# Altium footprint library IPC-SM-782 Section 14.1.3 PBGA 1.0mm.PcbLib: 50 footprints (part 6 of 14)
Each footprint in its own frame and in the unit in brackets; x right, y up, seen from the top. Pads: shape width x height; smd on the part's side, far side on the other; paste and mask are expansions set on the pad; w line width, h text height; cw(c..) or ccw(c..) is an arc to the next point about the centre after c.
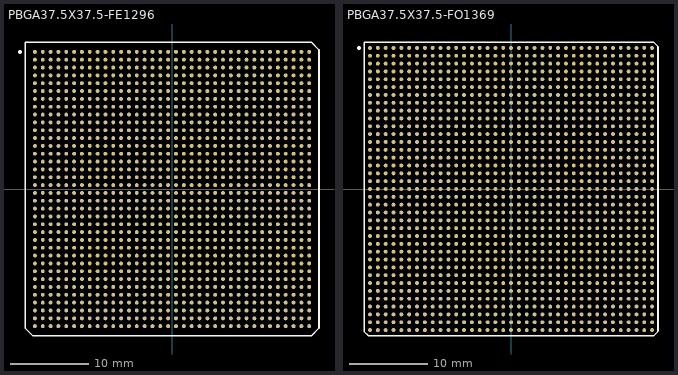
[diagram p5: the footprints below, top view; thin cyan lines are the x and y axes]

## PBGA37.5X37.5-FE1296 [mm] "BGA; 1296 Balls; Body 37.5 x 37.5 mm; Pitch 1 mm"
height 3.5
pads (1296):
  round 0.5 smd: A1(-17.5,17.5) A2(-16.5,17.5) A3(-15.5,17.5) A4(-14.5,17.5) A5(-13.5,17.5) A6(-12.5,17.5) A7(-11.5,17.5) A8(-10.5,17.5) A9(-9.5,17.5) A10(-8.5,17.5) A11(-7.5,17.5) A12(-6.5,17.5) A13(-5.5,17.5) A14(-4.5,17.5) A15(-3.5,17.5) A16(-2.5,17.5) A17(-1.5,17.5) A18(-0.5,17.5) A19(0.5,17.5) A20(1.5,17.5) A21(2.5,17.5) A22(3.5,17.5) A23(4.5,17.5) A24(5.5,17.5) A25(6.5,17.5) A26(7.5,17.5) A27(8.5,17.5) A28(9.5,17.5) A29(10.5,17.5) A30(11.5,17.5) A31(12.5,17.5) A32(13.5,17.5) A33(14.5,17.5) A34(15.5,17.5) A35(16.5,17.5) A36(17.5,17.5) AA1(-17.5,-2.5) AA2(-16.5,-2.5) AA3(-15.5,-2.5) AA4(-14.5,-2.5) AA5(-13.5,-2.5) AA6(-12.5,-2.5) AA7(-11.5,-2.5) AA8(-10.5,-2.5) AA9(-9.5,-2.5) AA10(-8.5,-2.5) AA11(-7.5,-2.5) AA12(-6.5,-2.5) AA13(-5.5,-2.5) AA14(-4.5,-2.5) AA15(-3.5,-2.5) AA16(-2.5,-2.5) AA17(-1.5,-2.5) AA18(-0.5,-2.5) AA19(0.5,-2.5) AA20(1.5,-2.5) AA21(2.5,-2.5) AA22(3.5,-2.5) AA23(4.5,-2.5) AA24(5.5,-2.5) AA25(6.5,-2.5) AA26(7.5,-2.5) AA27(8.5,-2.5) AA28(9.5,-2.5) AA29(10.5,-2.5) AA30(11.5,-2.5) AA31(12.5,-2.5) AA32(13.5,-2.5) AA33(14.5,-2.5) AA34(15.5,-2.5) AA35(16.5,-2.5) AA36(17.5,-2.5) AB1(-17.5,-3.5) AB2(-16.5,-3.5) AB3(-15.5,-3.5) AB4(-14.5,-3.5) AB5(-13.5,-3.5) AB6(-12.5,-3.5) AB7(-11.5,-3.5) AB8(-10.5,-3.5) AB9(-9.5,-3.5) AB10(-8.5,-3.5) AB11(-7.5,-3.5) AB12(-6.5,-3.5) AB13(-5.5,-3.5) AB14(-4.5,-3.5) AB15(-3.5,-3.5) AB16(-2.5,-3.5) AB17(-1.5,-3.5) AB18(-0.5,-3.5) AB19(0.5,-3.5) AB20(1.5,-3.5) AB21(2.5,-3.5) AB22(3.5,-3.5) AB23(4.5,-3.5) AB24(5.5,-3.5) AB25(6.5,-3.5) AB26(7.5,-3.5) AB27(8.5,-3.5) AB28(9.5,-3.5) AB29(10.5,-3.5) AB30(11.5,-3.5) AB31(12.5,-3.5) AB32(13.5,-3.5) AB33(14.5,-3.5) AB34(15.5,-3.5) AB35(16.5,-3.5) AB36(17.5,-3.5) AC1(-17.5,-4.5) AC2(-16.5,-4.5) AC3(-15.5,-4.5) AC4(-14.5,-4.5) AC5(-13.5,-4.5) AC6(-12.5,-4.5) AC7(-11.5,-4.5) AC8(-10.5,-4.5) AC9(-9.5,-4.5) AC10(-8.5,-4.5) AC11(-7.5,-4.5) AC12(-6.5,-4.5) AC13(-5.5,-4.5) AC14(-4.5,-4.5) AC15(-3.5,-4.5) AC16(-2.5,-4.5) AC17(-1.5,-4.5) AC18(-0.5,-4.5) AC19(0.5,-4.5) AC20(1.5,-4.5) AC21(2.5,-4.5) AC22(3.5,-4.5) AC23(4.5,-4.5) AC24(5.5,-4.5) AC25(6.5,-4.5) AC26(7.5,-4.5) AC27(8.5,-4.5) AC28(9.5,-4.5) AC29(10.5,-4.5) AC30(11.5,-4.5) AC31(12.5,-4.5) AC32(13.5,-4.5) AC33(14.5,-4.5) AC34(15.5,-4.5) AC35(16.5,-4.5) AC36(17.5,-4.5) AD1(-17.5,-5.5) AD2(-16.5,-5.5) AD3(-15.5,-5.5) AD4(-14.5,-5.5) AD5(-13.5,-5.5) AD6(-12.5,-5.5) AD7(-11.5,-5.5) AD8(-10.5,-5.5) AD9(-9.5,-5.5) AD10(-8.5,-5.5) AD11(-7.5,-5.5) AD12(-6.5,-5.5) AD13(-5.5,-5.5) AD14(-4.5,-5.5) AD15(-3.5,-5.5) AD16(-2.5,-5.5) AD17(-1.5,-5.5) AD18(-0.5,-5.5) AD19(0.5,-5.5) AD20(1.5,-5.5) AD21(2.5,-5.5) AD22(3.5,-5.5) AD23(4.5,-5.5) AD24(5.5,-5.5) AD25(6.5,-5.5) AD26(7.5,-5.5) AD27(8.5,-5.5) AD28(9.5,-5.5) AD29(10.5,-5.5) AD30(11.5,-5.5) AD31(12.5,-5.5) AD32(13.5,-5.5) AD33(14.5,-5.5) AD34(15.5,-5.5) AD35(16.5,-5.5) AD36(17.5,-5.5) AE1(-17.5,-6.5) AE2(-16.5,-6.5) AE3(-15.5,-6.5) AE4(-14.5,-6.5) AE5(-13.5,-6.5) AE6(-12.5,-6.5) AE7(-11.5,-6.5) AE8(-10.5,-6.5) AE9(-9.5,-6.5) AE10(-8.5,-6.5) AE11(-7.5,-6.5) AE12(-6.5,-6.5) AE13(-5.5,-6.5) AE14(-4.5,-6.5) AE15(-3.5,-6.5) AE16(-2.5,-6.5) AE17(-1.5,-6.5) AE18(-0.5,-6.5) AE19(0.5,-6.5) AE20(1.5,-6.5) AE21(2.5,-6.5) AE22(3.5,-6.5) AE23(4.5,-6.5) AE24(5.5,-6.5) AE25(6.5,-6.5) AE26(7.5,-6.5) AE27(8.5,-6.5) AE28(9.5,-6.5) AE29(10.5,-6.5) AE30(11.5,-6.5) AE31(12.5,-6.5) AE32(13.5,-6.5) AE33(14.5,-6.5) AE34(15.5,-6.5) AE35(16.5,-6.5) AE36(17.5,-6.5) AF1(-17.5,-7.5) AF2(-16.5,-7.5) AF3(-15.5,-7.5) AF4(-14.5,-7.5) AF5(-13.5,-7.5) AF6(-12.5,-7.5) AF7(-11.5,-7.5) AF8(-10.5,-7.5) AF9(-9.5,-7.5) AF10(-8.5,-7.5) AF11(-7.5,-7.5) AF12(-6.5,-7.5) AF13(-5.5,-7.5) AF14(-4.5,-7.5) AF15(-3.5,-7.5) AF16(-2.5,-7.5) AF17(-1.5,-7.5) AF18(-0.5,-7.5) AF19(0.5,-7.5) AF20(1.5,-7.5) AF21(2.5,-7.5) AF22(3.5,-7.5) AF23(4.5,-7.5) AF24(5.5,-7.5) AF25(6.5,-7.5) AF26(7.5,-7.5) AF27(8.5,-7.5) AF28(9.5,-7.5) AF29(10.5,-7.5) AF30(11.5,-7.5) AF31(12.5,-7.5) AF32(13.5,-7.5) AF33(14.5,-7.5) AF34(15.5,-7.5) AF35(16.5,-7.5) AF36(17.5,-7.5) AG1(-17.5,-8.5) AG2(-16.5,-8.5) AG3(-15.5,-8.5) AG4(-14.5,-8.5) AG5(-13.5,-8.5) AG6(-12.5,-8.5) AG7(-11.5,-8.5) AG8(-10.5,-8.5) AG9(-9.5,-8.5) AG10(-8.5,-8.5) AG11(-7.5,-8.5) AG12(-6.5,-8.5) AG13(-5.5,-8.5) AG14(-4.5,-8.5) AG15(-3.5,-8.5) AG16(-2.5,-8.5) AG17(-1.5,-8.5) AG18(-0.5,-8.5) AG19(0.5,-8.5) AG20(1.5,-8.5) AG21(2.5,-8.5) AG22(3.5,-8.5) AG23(4.5,-8.5) AG24(5.5,-8.5) AG25(6.5,-8.5) AG26(7.5,-8.5) AG27(8.5,-8.5) AG28(9.5,-8.5) AG29(10.5,-8.5) AG30(11.5,-8.5) AG31(12.5,-8.5) AG32(13.5,-8.5) AG33(14.5,-8.5) AG34(15.5,-8.5) AG35(16.5,-8.5) AG36(17.5,-8.5) AH1(-17.5,-9.5) AH2(-16.5,-9.5) AH3(-15.5,-9.5) AH4(-14.5,-9.5) AH5(-13.5,-9.5) AH6(-12.5,-9.5) AH7(-11.5,-9.5) AH8(-10.5,-9.5) AH9(-9.5,-9.5) AH10(-8.5,-9.5) AH11(-7.5,-9.5) AH12(-6.5,-9.5) AH13(-5.5,-9.5) AH14(-4.5,-9.5) AH15(-3.5,-9.5) AH16(-2.5,-9.5) AH17(-1.5,-9.5) AH18(-0.5,-9.5) AH19(0.5,-9.5) AH20(1.5,-9.5) AH21(2.5,-9.5) AH22(3.5,-9.5) AH23(4.5,-9.5) AH24(5.5,-9.5) AH25(6.5,-9.5) AH26(7.5,-9.5) AH27(8.5,-9.5) AH28(9.5,-9.5) AH29(10.5,-9.5) AH30(11.5,-9.5) AH31(12.5,-9.5) AH32(13.5,-9.5) AH33(14.5,-9.5) AH34(15.5,-9.5) AH35(16.5,-9.5) AH36(17.5,-9.5) AJ1(-17.5,-10.5) AJ2(-16.5,-10.5) AJ3(-15.5,-10.5) AJ4(-14.5,-10.5) AJ5(-13.5,-10.5) AJ6(-12.5,-10.5) AJ7(-11.5,-10.5) AJ8(-10.5,-10.5) AJ9(-9.5,-10.5) AJ10(-8.5,-10.5) AJ11(-7.5,-10.5) AJ12(-6.5,-10.5) AJ13(-5.5,-10.5) AJ14(-4.5,-10.5) AJ15(-3.5,-10.5) AJ16(-2.5,-10.5) AJ17(-1.5,-10.5) AJ18(-0.5,-10.5) AJ19(0.5,-10.5) AJ20(1.5,-10.5) AJ21(2.5,-10.5) AJ22(3.5,-10.5) AJ23(4.5,-10.5) AJ24(5.5,-10.5) AJ25(6.5,-10.5) AJ26(7.5,-10.5) AJ27(8.5,-10.5) AJ28(9.5,-10.5) AJ29(10.5,-10.5) AJ30(11.5,-10.5) AJ31(12.5,-10.5) AJ32(13.5,-10.5) AJ33(14.5,-10.5) AJ34(15.5,-10.5) AJ35(16.5,-10.5) AJ36(17.5,-10.5) AK1(-17.5,-11.5) AK2(-16.5,-11.5) AK3(-15.5,-11.5) AK4(-14.5,-11.5) AK5(-13.5,-11.5) AK6(-12.5,-11.5) AK7(-11.5,-11.5) AK8(-10.5,-11.5) AK9(-9.5,-11.5) AK10(-8.5,-11.5) AK11(-7.5,-11.5) AK12(-6.5,-11.5) AK13(-5.5,-11.5) AK14(-4.5,-11.5) AK15(-3.5,-11.5) AK16(-2.5,-11.5) AK17(-1.5,-11.5) AK18(-0.5,-11.5) AK19(0.5,-11.5) AK20(1.5,-11.5) AK21(2.5,-11.5) AK22(3.5,-11.5) AK23(4.5,-11.5) AK24(5.5,-11.5) AK25(6.5,-11.5) AK26(7.5,-11.5) AK27(8.5,-11.5) AK28(9.5,-11.5) AK29(10.5,-11.5) AK30(11.5,-11.5) AK31(12.5,-11.5) AK32(13.5,-11.5) AK33(14.5,-11.5) AK34(15.5,-11.5) AK35(16.5,-11.5) AK36(17.5,-11.5) AL1(-17.5,-12.5) AL2(-16.5,-12.5) AL3(-15.5,-12.5) AL4(-14.5,-12.5) AL5(-13.5,-12.5) AL6(-12.5,-12.5) AL7(-11.5,-12.5) AL8(-10.5,-12.5) AL9(-9.5,-12.5) AL10(-8.5,-12.5) AL11(-7.5,-12.5) AL12(-6.5,-12.5) AL13(-5.5,-12.5) AL14(-4.5,-12.5) AL15(-3.5,-12.5) AL16(-2.5,-12.5) AL17(-1.5,-12.5) AL18(-0.5,-12.5) AL19(0.5,-12.5) AL20(1.5,-12.5) AL21(2.5,-12.5) AL22(3.5,-12.5) AL23(4.5,-12.5) AL24(5.5,-12.5) AL25(6.5,-12.5) AL26(7.5,-12.5) AL27(8.5,-12.5) AL28(9.5,-12.5) AL29(10.5,-12.5) AL30(11.5,-12.5) AL31(12.5,-12.5) AL32(13.5,-12.5) AL33(14.5,-12.5) AL34(15.5,-12.5) AL35(16.5,-12.5) AL36(17.5,-12.5) AM1(-17.5,-13.5) AM2(-16.5,-13.5) AM3(-15.5,-13.5) AM4(-14.5,-13.5) AM5(-13.5,-13.5) AM6(-12.5,-13.5) AM7(-11.5,-13.5) AM8(-10.5,-13.5) AM9(-9.5,-13.5) AM10(-8.5,-13.5) AM11(-7.5,-13.5) AM12(-6.5,-13.5) AM13(-5.5,-13.5) AM14(-4.5,-13.5) AM15(-3.5,-13.5) AM16(-2.5,-13.5) AM17(-1.5,-13.5) AM18(-0.5,-13.5) AM19(0.5,-13.5) AM20(1.5,-13.5) AM21(2.5,-13.5) AM22(3.5,-13.5) AM23(4.5,-13.5) AM24(5.5,-13.5) AM25(6.5,-13.5) AM26(7.5,-13.5) AM27(8.5,-13.5) AM28(9.5,-13.5) AM29(10.5,-13.5) AM30(11.5,-13.5) AM31(12.5,-13.5) AM32(13.5,-13.5) AM33(14.5,-13.5) AM34(15.5,-13.5) AM35(16.5,-13.5) AM36(17.5,-13.5) AN1(-17.5,-14.5) AN2(-16.5,-14.5) AN3(-15.5,-14.5) AN4(-14.5,-14.5) AN5(-13.5,-14.5) AN6(-12.5,-14.5) AN7(-11.5,-14.5) AN8(-10.5,-14.5) AN9(-9.5,-14.5) AN10(-8.5,-14.5) AN11(-7.5,-14.5) AN12(-6.5,-14.5) AN13(-5.5,-14.5) AN14(-4.5,-14.5) AN15(-3.5,-14.5) AN16(-2.5,-14.5) AN17(-1.5,-14.5) AN18(-0.5,-14.5) AN19(0.5,-14.5) AN20(1.5,-14.5) AN21(2.5,-14.5) AN22(3.5,-14.5) AN23(4.5,-14.5) AN24(5.5,-14.5) AN25(6.5,-14.5) AN26(7.5,-14.5) AN27(8.5,-14.5) AN28(9.5,-14.5) AN29(10.5,-14.5) AN30(11.5,-14.5) AN31(12.5,-14.5) AN32(13.5,-14.5) AN33(14.5,-14.5) AN34(15.5,-14.5) AN35(16.5,-14.5) AN36(17.5,-14.5) AP1(-17.5,-15.5) AP2(-16.5,-15.5) AP3(-15.5,-15.5) AP4(-14.5,-15.5) AP5(-13.5,-15.5) AP6(-12.5,-15.5) AP7(-11.5,-15.5) AP8(-10.5,-15.5) AP9(-9.5,-15.5) AP10(-8.5,-15.5) AP11(-7.5,-15.5) AP12(-6.5,-15.5) AP13(-5.5,-15.5) AP14(-4.5,-15.5) AP15(-3.5,-15.5) AP16(-2.5,-15.5) AP17(-1.5,-15.5) AP18(-0.5,-15.5) AP19(0.5,-15.5) AP20(1.5,-15.5) AP21(2.5,-15.5) AP22(3.5,-15.5) AP23(4.5,-15.5) AP24(5.5,-15.5) AP25(6.5,-15.5) AP26(7.5,-15.5) AP27(8.5,-15.5) AP28(9.5,-15.5) AP29(10.5,-15.5) AP30(11.5,-15.5) AP31(12.5,-15.5) AP32(13.5,-15.5) AP33(14.5,-15.5) AP34(15.5,-15.5) AP35(16.5,-15.5) AP36(17.5,-15.5) AR1(-17.5,-16.5) AR2(-16.5,-16.5) AR3(-15.5,-16.5) AR4(-14.5,-16.5) AR5(-13.5,-16.5) AR6(-12.5,-16.5) AR7(-11.5,-16.5) AR8(-10.5,-16.5) AR9(-9.5,-16.5) AR10(-8.5,-16.5) AR11(-7.5,-16.5) AR12(-6.5,-16.5) AR13(-5.5,-16.5) AR14(-4.5,-16.5) AR15(-3.5,-16.5) AR16(-2.5,-16.5) AR17(-1.5,-16.5) AR18(-0.5,-16.5) AR19(0.5,-16.5) AR20(1.5,-16.5) AR21(2.5,-16.5) AR22(3.5,-16.5) AR23(4.5,-16.5) AR24(5.5,-16.5) AR25(6.5,-16.5) AR26(7.5,-16.5) AR27(8.5,-16.5) AR28(9.5,-16.5) AR29(10.5,-16.5) AR30(11.5,-16.5) AR31(12.5,-16.5) AR32(13.5,-16.5) AR33(14.5,-16.5) AR34(15.5,-16.5) AR35(16.5,-16.5) AR36(17.5,-16.5) AT1(-17.5,-17.5) AT2(-16.5,-17.5) AT3(-15.5,-17.5) AT4(-14.5,-17.5) AT5(-13.5,-17.5) AT6(-12.5,-17.5) AT7(-11.5,-17.5) AT8(-10.5,-17.5) AT9(-9.5,-17.5) AT10(-8.5,-17.5) AT11(-7.5,-17.5) AT12(-6.5,-17.5) AT13(-5.5,-17.5) AT14(-4.5,-17.5) AT15(-3.5,-17.5) AT16(-2.5,-17.5) AT17(-1.5,-17.5) AT18(-0.5,-17.5) AT19(0.5,-17.5) AT20(1.5,-17.5) AT21(2.5,-17.5) AT22(3.5,-17.5) AT23(4.5,-17.5) AT24(5.5,-17.5) AT25(6.5,-17.5) AT26(7.5,-17.5) AT27(8.5,-17.5) AT28(9.5,-17.5) AT29(10.5,-17.5) AT30(11.5,-17.5) AT31(12.5,-17.5) AT32(13.5,-17.5) AT33(14.5,-17.5) AT34(15.5,-17.5) AT35(16.5,-17.5) AT36(17.5,-17.5) B1(-17.5,16.5) B2(-16.5,16.5) B3(-15.5,16.5) B4(-14.5,16.5) B5(-13.5,16.5) B6(-12.5,16.5) B7(-11.5,16.5) B8(-10.5,16.5) B9(-9.5,16.5) B10(-8.5,16.5) B11(-7.5,16.5) B12(-6.5,16.5) B13(-5.5,16.5) B14(-4.5,16.5) B15(-3.5,16.5) B16(-2.5,16.5) B17(-1.5,16.5) B18(-0.5,16.5) B19(0.5,16.5) B20(1.5,16.5) B21(2.5,16.5) B22(3.5,16.5) B23(4.5,16.5) B24(5.5,16.5) B25(6.5,16.5) B26(7.5,16.5) B27(8.5,16.5) B28(9.5,16.5) B29(10.5,16.5) B30(11.5,16.5) B31(12.5,16.5) B32(13.5,16.5) B33(14.5,16.5) B34(15.5,16.5) B35(16.5,16.5) B36(17.5,16.5) C1(-17.5,15.5) C2(-16.5,15.5) C3(-15.5,15.5) C4(-14.5,15.5) C5(-13.5,15.5) C6(-12.5,15.5) C7(-11.5,15.5) C8(-10.5,15.5) C9(-9.5,15.5) C10(-8.5,15.5) C11(-7.5,15.5) C12(-6.5,15.5) C13(-5.5,15.5) C14(-4.5,15.5) C15(-3.5,15.5) C16(-2.5,15.5) C17(-1.5,15.5) C18(-0.5,15.5) C19(0.5,15.5) C20(1.5,15.5) C21(2.5,15.5) C22(3.5,15.5) C23(4.5,15.5) C24(5.5,15.5) C25(6.5,15.5) C26(7.5,15.5) C27(8.5,15.5) C28(9.5,15.5) C29(10.5,15.5) C30(11.5,15.5) C31(12.5,15.5) C32(13.5,15.5) C33(14.5,15.5) C34(15.5,15.5) C35(16.5,15.5) C36(17.5,15.5) D1(-17.5,14.5) D2(-16.5,14.5) D3(-15.5,14.5) D4(-14.5,14.5) D5(-13.5,14.5) D6(-12.5,14.5) D7(-11.5,14.5) D8(-10.5,14.5) D9(-9.5,14.5) D10(-8.5,14.5) D11(-7.5,14.5) D12(-6.5,14.5) D13(-5.5,14.5) D14(-4.5,14.5) D15(-3.5,14.5) D16(-2.5,14.5) D17(-1.5,14.5) D18(-0.5,14.5) D19(0.5,14.5) D20(1.5,14.5) D21(2.5,14.5) D22(3.5,14.5) D23(4.5,14.5) D24(5.5,14.5) D25(6.5,14.5) D26(7.5,14.5) D27(8.5,14.5) D28(9.5,14.5) D29(10.5,14.5) D30(11.5,14.5) D31(12.5,14.5) D32(13.5,14.5) D33(14.5,14.5) D34(15.5,14.5) D35(16.5,14.5) D36(17.5,14.5) E1(-17.5,13.5) E2(-16.5,13.5) E3(-15.5,13.5) E4(-14.5,13.5) E5(-13.5,13.5) E6(-12.5,13.5) E7(-11.5,13.5) E8(-10.5,13.5) E9(-9.5,13.5) E10(-8.5,13.5) E11(-7.5,13.5) E12(-6.5,13.5) E13(-5.5,13.5) E14(-4.5,13.5) E15(-3.5,13.5) E16(-2.5,13.5) E17(-1.5,13.5) E18(-0.5,13.5) E19(0.5,13.5) E20(1.5,13.5) E21(2.5,13.5) E22(3.5,13.5) E23(4.5,13.5) E24(5.5,13.5) E25(6.5,13.5) E26(7.5,13.5) E27(8.5,13.5) E28(9.5,13.5) E29(10.5,13.5) E30(11.5,13.5) E31(12.5,13.5) E32(13.5,13.5) E33(14.5,13.5) E34(15.5,13.5) E35(16.5,13.5) E36(17.5,13.5) F1(-17.5,12.5) F2(-16.5,12.5) F3(-15.5,12.5) F4(-14.5,12.5) F5(-13.5,12.5) F6(-12.5,12.5) F7(-11.5,12.5) F8(-10.5,12.5) F9(-9.5,12.5) F10(-8.5,12.5) F11(-7.5,12.5) F12(-6.5,12.5) F13(-5.5,12.5) F14(-4.5,12.5) F15(-3.5,12.5) F16(-2.5,12.5) F17(-1.5,12.5) F18(-0.5,12.5) F19(0.5,12.5) F20(1.5,12.5) F21(2.5,12.5) F22(3.5,12.5) F23(4.5,12.5) F24(5.5,12.5) F25(6.5,12.5) F26(7.5,12.5) F27(8.5,12.5) F28(9.5,12.5) F29(10.5,12.5) F30(11.5,12.5) F31(12.5,12.5) F32(13.5,12.5) F33(14.5,12.5) F34(15.5,12.5) F35(16.5,12.5) F36(17.5,12.5) G1(-17.5,11.5) G2(-16.5,11.5) G3(-15.5,11.5) G4(-14.5,11.5) G5(-13.5,11.5) G6(-12.5,11.5) G7(-11.5,11.5) G8(-10.5,11.5) G9(-9.5,11.5) G10(-8.5,11.5) G11(-7.5,11.5) G12(-6.5,11.5) G13(-5.5,11.5) G14(-4.5,11.5) G15(-3.5,11.5) G16(-2.5,11.5) G17(-1.5,11.5) G18(-0.5,11.5) G19(0.5,11.5) G20(1.5,11.5) G21(2.5,11.5) G22(3.5,11.5) G23(4.5,11.5) G24(5.5,11.5) G25(6.5,11.5) G26(7.5,11.5) G27(8.5,11.5) G28(9.5,11.5) G29(10.5,11.5) G30(11.5,11.5) G31(12.5,11.5) G32(13.5,11.5) G33(14.5,11.5) G34(15.5,11.5) G35(16.5,11.5) G36(17.5,11.5) H1(-17.5,10.5) H2(-16.5,10.5) H3(-15.5,10.5) H4(-14.5,10.5) H5(-13.5,10.5) H6(-12.5,10.5) H7(-11.5,10.5) H8(-10.5,10.5) H9(-9.5,10.5) H10(-8.5,10.5) H11(-7.5,10.5) H12(-6.5,10.5) H13(-5.5,10.5) H14(-4.5,10.5) H15(-3.5,10.5) H16(-2.5,10.5) H17(-1.5,10.5) H18(-0.5,10.5) H19(0.5,10.5) H20(1.5,10.5) H21(2.5,10.5) H22(3.5,10.5) H23(4.5,10.5) H24(5.5,10.5) H25(6.5,10.5) H26(7.5,10.5) H27(8.5,10.5) H28(9.5,10.5) H29(10.5,10.5) H30(11.5,10.5) H31(12.5,10.5) H32(13.5,10.5) H33(14.5,10.5) H34(15.5,10.5) H35(16.5,10.5) H36(17.5,10.5) J1(-17.5,9.5) J2(-16.5,9.5) J3(-15.5,9.5) J4(-14.5,9.5) J5(-13.5,9.5) J6(-12.5,9.5) J7(-11.5,9.5) J8(-10.5,9.5) J9(-9.5,9.5) J10(-8.5,9.5) J11(-7.5,9.5) J12(-6.5,9.5) J13(-5.5,9.5) J14(-4.5,9.5) J15(-3.5,9.5) J16(-2.5,9.5) J17(-1.5,9.5) J18(-0.5,9.5) J19(0.5,9.5) J20(1.5,9.5) J21(2.5,9.5) J22(3.5,9.5) J23(4.5,9.5) J24(5.5,9.5) J25(6.5,9.5) J26(7.5,9.5) J27(8.5,9.5) J28(9.5,9.5) J29(10.5,9.5) J30(11.5,9.5) J31(12.5,9.5) J32(13.5,9.5) J33(14.5,9.5) J34(15.5,9.5) J35(16.5,9.5) J36(17.5,9.5) K1(-17.5,8.5) K2(-16.5,8.5) K3(-15.5,8.5) K4(-14.5,8.5) K5(-13.5,8.5) K6(-12.5,8.5) K7(-11.5,8.5) K8(-10.5,8.5) K9(-9.5,8.5) K10(-8.5,8.5) K11(-7.5,8.5) K12(-6.5,8.5) K13(-5.5,8.5) K14(-4.5,8.5) K15(-3.5,8.5) K16(-2.5,8.5) K17(-1.5,8.5) K18(-0.5,8.5) K19(0.5,8.5) K20(1.5,8.5) K21(2.5,8.5) K22(3.5,8.5) K23(4.5,8.5) K24(5.5,8.5) K25(6.5,8.5) K26(7.5,8.5) K27(8.5,8.5) K28(9.5,8.5) K29(10.5,8.5) K30(11.5,8.5) K31(12.5,8.5) K32(13.5,8.5) K33(14.5,8.5) K34(15.5,8.5) K35(16.5,8.5) K36(17.5,8.5) L1(-17.5,7.5) L2(-16.5,7.5) L3(-15.5,7.5) L4(-14.5,7.5) L5(-13.5,7.5) L6(-12.5,7.5) L7(-11.5,7.5) L8(-10.5,7.5) L9(-9.5,7.5) L10(-8.5,7.5) L11(-7.5,7.5) L12(-6.5,7.5) L13(-5.5,7.5) L14(-4.5,7.5) L15(-3.5,7.5) L16(-2.5,7.5) L17(-1.5,7.5) L18(-0.5,7.5) L19(0.5,7.5) L20(1.5,7.5) L21(2.5,7.5) L22(3.5,7.5) L23(4.5,7.5) L24(5.5,7.5) L25(6.5,7.5) L26(7.5,7.5) L27(8.5,7.5) L28(9.5,7.5) L29(10.5,7.5) L30(11.5,7.5) L31(12.5,7.5) L32(13.5,7.5) L33(14.5,7.5) L34(15.5,7.5) L35(16.5,7.5) L36(17.5,7.5) M1(-17.5,6.5) M2(-16.5,6.5) M3(-15.5,6.5) M4(-14.5,6.5) M5(-13.5,6.5) M6(-12.5,6.5) M7(-11.5,6.5) M8(-10.5,6.5) M9(-9.5,6.5) M10(-8.5,6.5) M11(-7.5,6.5) M12(-6.5,6.5) M13(-5.5,6.5) M14(-4.5,6.5) M15(-3.5,6.5) M16(-2.5,6.5) M17(-1.5,6.5) M18(-0.5,6.5) M19(0.5,6.5) M20(1.5,6.5) M21(2.5,6.5) M22(3.5,6.5) M23(4.5,6.5) M24(5.5,6.5) M25(6.5,6.5) M26(7.5,6.5) M27(8.5,6.5) M28(9.5,6.5) M29(10.5,6.5) M30(11.5,6.5) M31(12.5,6.5) M32(13.5,6.5) M33(14.5,6.5) M34(15.5,6.5) M35(16.5,6.5) M36(17.5,6.5) N1(-17.5,5.5) N2(-16.5,5.5) N3(-15.5,5.5) N4(-14.5,5.5) N5(-13.5,5.5) N6(-12.5,5.5) N7(-11.5,5.5) N8(-10.5,5.5) N9(-9.5,5.5) N10(-8.5,5.5) N11(-7.5,5.5) N12(-6.5,5.5) N13(-5.5,5.5) N14(-4.5,5.5) N15(-3.5,5.5) N16(-2.5,5.5) N17(-1.5,5.5) N18(-0.5,5.5) N19(0.5,5.5) N20(1.5,5.5) N21(2.5,5.5) N22(3.5,5.5) N23(4.5,5.5) N24(5.5,5.5) N25(6.5,5.5) N26(7.5,5.5) N27(8.5,5.5) N28(9.5,5.5) N29(10.5,5.5) N30(11.5,5.5) N31(12.5,5.5) N32(13.5,5.5) N33(14.5,5.5) N34(15.5,5.5) N35(16.5,5.5) N36(17.5,5.5) P1(-17.5,4.5) P2(-16.5,4.5) P3(-15.5,4.5) P4(-14.5,4.5) P5(-13.5,4.5) P6(-12.5,4.5) P7(-11.5,4.5) P8(-10.5,4.5) P9(-9.5,4.5) P10(-8.5,4.5) P11(-7.5,4.5) P12(-6.5,4.5) P13(-5.5,4.5) P14(-4.5,4.5) P15(-3.5,4.5) P16(-2.5,4.5) P17(-1.5,4.5) P18(-0.5,4.5) P19(0.5,4.5) P20(1.5,4.5) P21(2.5,4.5) P22(3.5,4.5) P23(4.5,4.5) P24(5.5,4.5) P25(6.5,4.5) P26(7.5,4.5) P27(8.5,4.5) P28(9.5,4.5) P29(10.5,4.5) P30(11.5,4.5) P31(12.5,4.5) P32(13.5,4.5) P33(14.5,4.5) P34(15.5,4.5) P35(16.5,4.5) P36(17.5,4.5) R1(-17.5,3.5) R2(-16.5,3.5) R3(-15.5,3.5) R4(-14.5,3.5) R5(-13.5,3.5) R6(-12.5,3.5) R7(-11.5,3.5) R8(-10.5,3.5) R9(-9.5,3.5) R10(-8.5,3.5) R11(-7.5,3.5) R12(-6.5,3.5) R13(-5.5,3.5) R14(-4.5,3.5) R15(-3.5,3.5) R16(-2.5,3.5) R17(-1.5,3.5) R18(-0.5,3.5) R19(0.5,3.5) R20(1.5,3.5) R21(2.5,3.5) R22(3.5,3.5) R23(4.5,3.5) R24(5.5,3.5) R25(6.5,3.5) R26(7.5,3.5) R27(8.5,3.5) R28(9.5,3.5) R29(10.5,3.5) R30(11.5,3.5) R31(12.5,3.5) R32(13.5,3.5) R33(14.5,3.5) R34(15.5,3.5) R35(16.5,3.5) R36(17.5,3.5) T1(-17.5,2.5) T2(-16.5,2.5) T3(-15.5,2.5) T4(-14.5,2.5) T5(-13.5,2.5) T6(-12.5,2.5) T7(-11.5,2.5) T8(-10.5,2.5) T9(-9.5,2.5) T10(-8.5,2.5) T11(-7.5,2.5) T12(-6.5,2.5) T13(-5.5,2.5) T14(-4.5,2.5) T15(-3.5,2.5) T16(-2.5,2.5) T17(-1.5,2.5) T18(-0.5,2.5) T19(0.5,2.5) T20(1.5,2.5) T21(2.5,2.5) T22(3.5,2.5) T23(4.5,2.5) T24(5.5,2.5) T25(6.5,2.5) T26(7.5,2.5) T27(8.5,2.5) T28(9.5,2.5) T29(10.5,2.5) T30(11.5,2.5) T31(12.5,2.5) T32(13.5,2.5) T33(14.5,2.5) T34(15.5,2.5) T35(16.5,2.5) T36(17.5,2.5) U1(-17.5,1.5) U2(-16.5,1.5) U3(-15.5,1.5) U4(-14.5,1.5) U5(-13.5,1.5) U6(-12.5,1.5) U7(-11.5,1.5) U8(-10.5,1.5) U9(-9.5,1.5) U10(-8.5,1.5) U11(-7.5,1.5) U12(-6.5,1.5) U13(-5.5,1.5) U14(-4.5,1.5) U15(-3.5,1.5) U16(-2.5,1.5) U17(-1.5,1.5) U18(-0.5,1.5) U19(0.5,1.5) U20(1.5,1.5) U21(2.5,1.5) U22(3.5,1.5) U23(4.5,1.5) U24(5.5,1.5) U25(6.5,1.5) U26(7.5,1.5) U27(8.5,1.5) U28(9.5,1.5) U29(10.5,1.5) U30(11.5,1.5) U31(12.5,1.5) U32(13.5,1.5) U33(14.5,1.5) U34(15.5,1.5) U35(16.5,1.5) U36(17.5,1.5) V1(-17.5,0.5) V2(-16.5,0.5) V3(-15.5,0.5) V4(-14.5,0.5) V5(-13.5,0.5) V6(-12.5,0.5) V7(-11.5,0.5) V8(-10.5,0.5) V9(-9.5,0.5) V10(-8.5,0.5) V11(-7.5,0.5) V12(-6.5,0.5) V13(-5.5,0.5) V14(-4.5,0.5) V15(-3.5,0.5) V16(-2.5,0.5) V17(-1.5,0.5) V18(-0.5,0.5) V19(0.5,0.5) V20(1.5,0.5) V21(2.5,0.5) V22(3.5,0.5) V23(4.5,0.5) V24(5.5,0.5) V25(6.5,0.5) V26(7.5,0.5) V27(8.5,0.5) V28(9.5,0.5) V29(10.5,0.5) V30(11.5,0.5) V31(12.5,0.5) V32(13.5,0.5) V33(14.5,0.5) V34(15.5,0.5) V35(16.5,0.5) V36(17.5,0.5) W1(-17.5,-0.5) W2(-16.5,-0.5) W3(-15.5,-0.5) W4(-14.5,-0.5) W5(-13.5,-0.5) W6(-12.5,-0.5) W7(-11.5,-0.5) W8(-10.5,-0.5) W9(-9.5,-0.5) W10(-8.5,-0.5) W11(-7.5,-0.5) W12(-6.5,-0.5) W13(-5.5,-0.5) W14(-4.5,-0.5) W15(-3.5,-0.5) W16(-2.5,-0.5) W17(-1.5,-0.5) W18(-0.5,-0.5) W19(0.5,-0.5) W20(1.5,-0.5) W21(2.5,-0.5) W22(3.5,-0.5) W23(4.5,-0.5) W24(5.5,-0.5) W25(6.5,-0.5) W26(7.5,-0.5) W27(8.5,-0.5) W28(9.5,-0.5) W29(10.5,-0.5) W30(11.5,-0.5) W31(12.5,-0.5) W32(13.5,-0.5) W33(14.5,-0.5) W34(15.5,-0.5) W35(16.5,-0.5) W36(17.5,-0.5) Y1(-17.5,-1.5) Y2(-16.5,-1.5) Y3(-15.5,-1.5) Y4(-14.5,-1.5) Y5(-13.5,-1.5) Y6(-12.5,-1.5) Y7(-11.5,-1.5) Y8(-10.5,-1.5) Y9(-9.5,-1.5) Y10(-8.5,-1.5) Y11(-7.5,-1.5) Y12(-6.5,-1.5) Y13(-5.5,-1.5) Y14(-4.5,-1.5) Y15(-3.5,-1.5) Y16(-2.5,-1.5) Y17(-1.5,-1.5) Y18(-0.5,-1.5) Y19(0.5,-1.5) Y20(1.5,-1.5) Y21(2.5,-1.5) Y22(3.5,-1.5) Y23(4.5,-1.5) Y24(5.5,-1.5) Y25(6.5,-1.5) Y26(7.5,-1.5) Y27(8.5,-1.5) Y28(9.5,-1.5) Y29(10.5,-1.5) Y30(11.5,-1.5) Y31(12.5,-1.5) Y32(13.5,-1.5) Y33(14.5,-1.5) Y34(15.5,-1.5) Y35(16.5,-1.5) Y36(17.5,-1.5)
Top Overlay:
  circle w0.25: c-19.405,17.5 r0.125
  lines w0.2: -18.75,-17.75 -17.75,-18.75 17.75,-18.75 18.75,-17.75 18.75,17.75 17.75,18.75 -18.75,18.75 -18.75,-17.75

## PBGA37.5X37.5-FO1369 [mm] "BGA; 1369 Balls; Body 37.5 x 37.5 mm; Pitch 1 mm"
height 3.5
pads (1369):
  round 0.5 smd: A1(-18,18) A2(-17,18) A3(-16,18) A4(-15,18) A5(-14,18) A6(-13,18) A7(-12,18) A8(-11,18) A9(-10,18) A10(-9,18) A11(-8,18) A12(-7,18) A13(-6,18) A14(-5,18) A15(-4,18) A16(-3,18) A17(-2,18) A18(-1,18) A19(0,18) A20(1,18) A21(2,18) A22(3,18) A23(4,18) A24(5,18) A25(6,18) A26(7,18) A27(8,18) A28(9,18) A29(10,18) A30(11,18) A31(12,18) A32(13,18) A33(14,18) A34(15,18) A35(16,18) A36(17,18) A37(18,18) AA1(-18,-2) AA2(-17,-2) AA3(-16,-2) AA4(-15,-2) AA5(-14,-2) AA6(-13,-2) AA7(-12,-2) AA8(-11,-2) AA9(-10,-2) AA10(-9,-2) AA11(-8,-2) AA12(-7,-2) AA13(-6,-2) AA14(-5,-2) AA15(-4,-2) AA16(-3,-2) AA17(-2,-2) AA18(-1,-2) AA19(0,-2) AA20(1,-2) AA21(2,-2) AA22(3,-2) AA23(4,-2) AA24(5,-2) AA25(6,-2) AA26(7,-2) AA27(8,-2) AA28(9,-2) AA29(10,-2) AA30(11,-2) AA31(12,-2) AA32(13,-2) AA33(14,-2) AA34(15,-2) AA35(16,-2) AA36(17,-2) AA37(18,-2) AB1(-18,-3) AB2(-17,-3) AB3(-16,-3) AB4(-15,-3) AB5(-14,-3) AB6(-13,-3) AB7(-12,-3) AB8(-11,-3) AB9(-10,-3) AB10(-9,-3) AB11(-8,-3) AB12(-7,-3) AB13(-6,-3) AB14(-5,-3) AB15(-4,-3) AB16(-3,-3) AB17(-2,-3) AB18(-1,-3) AB19(0,-3) AB20(1,-3) AB21(2,-3) AB22(3,-3) AB23(4,-3) AB24(5,-3) AB25(6,-3) AB26(7,-3) AB27(8,-3) AB28(9,-3) AB29(10,-3) AB30(11,-3) AB31(12,-3) AB32(13,-3) AB33(14,-3) AB34(15,-3) AB35(16,-3) AB36(17,-3) AB37(18,-3) AC1(-18,-4) AC2(-17,-4) AC3(-16,-4) AC4(-15,-4) AC5(-14,-4) AC6(-13,-4) AC7(-12,-4) AC8(-11,-4) AC9(-10,-4) AC10(-9,-4) AC11(-8,-4) AC12(-7,-4) AC13(-6,-4) AC14(-5,-4) AC15(-4,-4) AC16(-3,-4) AC17(-2,-4) AC18(-1,-4) AC19(0,-4) AC20(1,-4) AC21(2,-4) AC22(3,-4) AC23(4,-4) AC24(5,-4) AC25(6,-4) AC26(7,-4) AC27(8,-4) AC28(9,-4) AC29(10,-4) AC30(11,-4) AC31(12,-4) AC32(13,-4) AC33(14,-4) AC34(15,-4) AC35(16,-4) AC36(17,-4) AC37(18,-4) AD1(-18,-5) AD2(-17,-5) AD3(-16,-5) AD4(-15,-5) AD5(-14,-5) AD6(-13,-5) AD7(-12,-5) AD8(-11,-5) AD9(-10,-5) AD10(-9,-5) AD11(-8,-5) AD12(-7,-5) AD13(-6,-5) AD14(-5,-5) AD15(-4,-5) AD16(-3,-5) AD17(-2,-5) AD18(-1,-5) AD19(0,-5) AD20(1,-5) AD21(2,-5) AD22(3,-5) AD23(4,-5) AD24(5,-5) AD25(6,-5) AD26(7,-5) AD27(8,-5) AD28(9,-5) AD29(10,-5) AD30(11,-5) AD31(12,-5) AD32(13,-5) AD33(14,-5) AD34(15,-5) AD35(16,-5) AD36(17,-5) AD37(18,-5) AE1(-18,-6) AE2(-17,-6) AE3(-16,-6) AE4(-15,-6) AE5(-14,-6) AE6(-13,-6) AE7(-12,-6) AE8(-11,-6) AE9(-10,-6) AE10(-9,-6) AE11(-8,-6) AE12(-7,-6) AE13(-6,-6) AE14(-5,-6) AE15(-4,-6) AE16(-3,-6) AE17(-2,-6) AE18(-1,-6) AE19(0,-6) AE20(1,-6) AE21(2,-6) AE22(3,-6) AE23(4,-6) AE24(5,-6) AE25(6,-6) AE26(7,-6) AE27(8,-6) AE28(9,-6) AE29(10,-6) AE30(11,-6) AE31(12,-6) AE32(13,-6) AE33(14,-6) AE34(15,-6) AE35(16,-6) AE36(17,-6) AE37(18,-6) AF1(-18,-7) AF2(-17,-7) AF3(-16,-7) AF4(-15,-7) AF5(-14,-7) AF6(-13,-7) AF7(-12,-7) AF8(-11,-7) AF9(-10,-7) AF10(-9,-7) AF11(-8,-7) AF12(-7,-7) AF13(-6,-7) AF14(-5,-7) AF15(-4,-7) AF16(-3,-7) AF17(-2,-7) AF18(-1,-7) AF19(0,-7) AF20(1,-7) AF21(2,-7) AF22(3,-7) AF23(4,-7) AF24(5,-7) AF25(6,-7) AF26(7,-7) AF27(8,-7) AF28(9,-7) AF29(10,-7) AF30(11,-7) AF31(12,-7) AF32(13,-7) AF33(14,-7) AF34(15,-7) AF35(16,-7) AF36(17,-7) AF37(18,-7) AG1(-18,-8) AG2(-17,-8) AG3(-16,-8) AG4(-15,-8) AG5(-14,-8) AG6(-13,-8) AG7(-12,-8) AG8(-11,-8) AG9(-10,-8) AG10(-9,-8) AG11(-8,-8) AG12(-7,-8) AG13(-6,-8) AG14(-5,-8) AG15(-4,-8) AG16(-3,-8) AG17(-2,-8) AG18(-1,-8) AG19(0,-8) AG20(1,-8) AG21(2,-8) AG22(3,-8) AG23(4,-8) AG24(5,-8) AG25(6,-8) AG26(7,-8) AG27(8,-8) AG28(9,-8) AG29(10,-8) AG30(11,-8) AG31(12,-8) AG32(13,-8) AG33(14,-8) AG34(15,-8) AG35(16,-8) AG36(17,-8) AG37(18,-8) AH1(-18,-9) AH2(-17,-9) AH3(-16,-9) AH4(-15,-9) AH5(-14,-9) AH6(-13,-9) AH7(-12,-9) AH8(-11,-9) AH9(-10,-9) AH10(-9,-9) AH11(-8,-9) AH12(-7,-9) AH13(-6,-9) AH14(-5,-9) AH15(-4,-9) AH16(-3,-9) AH17(-2,-9) AH18(-1,-9) AH19(0,-9) AH20(1,-9) AH21(2,-9) AH22(3,-9) AH23(4,-9) AH24(5,-9) AH25(6,-9) AH26(7,-9) AH27(8,-9) AH28(9,-9) AH29(10,-9) AH30(11,-9) AH31(12,-9) AH32(13,-9) AH33(14,-9) AH34(15,-9) AH35(16,-9) AH36(17,-9) AH37(18,-9) AJ1(-18,-10) AJ2(-17,-10) AJ3(-16,-10) AJ4(-15,-10) AJ5(-14,-10) AJ6(-13,-10) AJ7(-12,-10) AJ8(-11,-10) AJ9(-10,-10) AJ10(-9,-10) AJ11(-8,-10) AJ12(-7,-10) AJ13(-6,-10) AJ14(-5,-10) AJ15(-4,-10) AJ16(-3,-10) AJ17(-2,-10) AJ18(-1,-10) AJ19(0,-10) AJ20(1,-10) AJ21(2,-10) AJ22(3,-10) AJ23(4,-10) AJ24(5,-10) AJ25(6,-10) AJ26(7,-10) AJ27(8,-10) AJ28(9,-10) AJ29(10,-10) AJ30(11,-10) AJ31(12,-10) AJ32(13,-10) AJ33(14,-10) AJ34(15,-10) AJ35(16,-10) AJ36(17,-10) AJ37(18,-10) AK1(-18,-11) AK2(-17,-11) AK3(-16,-11) AK4(-15,-11) AK5(-14,-11) AK6(-13,-11) AK7(-12,-11) AK8(-11,-11) AK9(-10,-11) AK10(-9,-11) AK11(-8,-11) AK12(-7,-11) AK13(-6,-11) AK14(-5,-11) AK15(-4,-11) AK16(-3,-11) AK17(-2,-11) AK18(-1,-11) AK19(0,-11) AK20(1,-11) AK21(2,-11) AK22(3,-11) AK23(4,-11) AK24(5,-11) AK25(6,-11) AK26(7,-11) AK27(8,-11) AK28(9,-11) AK29(10,-11) AK30(11,-11) AK31(12,-11) AK32(13,-11) AK33(14,-11) AK34(15,-11) AK35(16,-11) AK36(17,-11) AK37(18,-11) AL1(-18,-12) AL2(-17,-12) AL3(-16,-12) AL4(-15,-12) AL5(-14,-12) AL6(-13,-12) AL7(-12,-12) AL8(-11,-12) AL9(-10,-12) AL10(-9,-12) AL11(-8,-12) AL12(-7,-12) AL13(-6,-12) AL14(-5,-12) AL15(-4,-12) AL16(-3,-12) AL17(-2,-12) AL18(-1,-12) AL19(0,-12) AL20(1,-12) AL21(2,-12) AL22(3,-12) AL23(4,-12) AL24(5,-12) AL25(6,-12) AL26(7,-12) AL27(8,-12) AL28(9,-12) AL29(10,-12) AL30(11,-12) AL31(12,-12) AL32(13,-12) AL33(14,-12) AL34(15,-12) AL35(16,-12) AL36(17,-12) AL37(18,-12) AM1(-18,-13) AM2(-17,-13) AM3(-16,-13) AM4(-15,-13) AM5(-14,-13) AM6(-13,-13) AM7(-12,-13) AM8(-11,-13) AM9(-10,-13) AM10(-9,-13) AM11(-8,-13) AM12(-7,-13) AM13(-6,-13) AM14(-5,-13) AM15(-4,-13) AM16(-3,-13) AM17(-2,-13) AM18(-1,-13) AM19(0,-13) AM20(1,-13) AM21(2,-13) AM22(3,-13) AM23(4,-13) AM24(5,-13) AM25(6,-13) AM26(7,-13) AM27(8,-13) AM28(9,-13) AM29(10,-13) AM30(11,-13) AM31(12,-13) AM32(13,-13) AM33(14,-13) AM34(15,-13) AM35(16,-13) AM36(17,-13) AM37(18,-13) AN1(-18,-14) AN2(-17,-14) AN3(-16,-14) AN4(-15,-14) AN5(-14,-14) AN6(-13,-14) AN7(-12,-14) AN8(-11,-14) AN9(-10,-14) AN10(-9,-14) AN11(-8,-14) AN12(-7,-14) AN13(-6,-14) AN14(-5,-14) AN15(-4,-14) AN16(-3,-14) AN17(-2,-14) AN18(-1,-14) AN19(0,-14) AN20(1,-14) AN21(2,-14) AN22(3,-14) AN23(4,-14) AN24(5,-14) AN25(6,-14) AN26(7,-14) AN27(8,-14) AN28(9,-14) AN29(10,-14) AN30(11,-14) AN31(12,-14) AN32(13,-14) AN33(14,-14) AN34(15,-14) AN35(16,-14) AN36(17,-14) AN37(18,-14) AP1(-18,-15) AP2(-17,-15) AP3(-16,-15) AP4(-15,-15) AP5(-14,-15) AP6(-13,-15) AP7(-12,-15) AP8(-11,-15) AP9(-10,-15) AP10(-9,-15) AP11(-8,-15) AP12(-7,-15) AP13(-6,-15) AP14(-5,-15) AP15(-4,-15) AP16(-3,-15) AP17(-2,-15) AP18(-1,-15) AP19(0,-15) AP20(1,-15) AP21(2,-15) AP22(3,-15) AP23(4,-15) AP24(5,-15) AP25(6,-15) AP26(7,-15) AP27(8,-15) AP28(9,-15) AP29(10,-15) AP30(11,-15) AP31(12,-15) AP32(13,-15) AP33(14,-15) AP34(15,-15) AP35(16,-15) AP36(17,-15) AP37(18,-15) AR1(-18,-16) AR2(-17,-16) AR3(-16,-16) AR4(-15,-16) AR5(-14,-16) AR6(-13,-16) AR7(-12,-16) AR8(-11,-16) AR9(-10,-16) AR10(-9,-16) AR11(-8,-16) AR12(-7,-16) AR13(-6,-16) AR14(-5,-16) AR15(-4,-16) AR16(-3,-16) AR17(-2,-16) AR18(-1,-16) AR19(0,-16) AR20(1,-16) AR21(2,-16) AR22(3,-16) AR23(4,-16) AR24(5,-16) AR25(6,-16) AR26(7,-16) AR27(8,-16) AR28(9,-16) AR29(10,-16) AR30(11,-16) AR31(12,-16) AR32(13,-16) AR33(14,-16) AR34(15,-16) AR35(16,-16) AR36(17,-16) AR37(18,-16) AT1(-18,-17) AT2(-17,-17) AT3(-16,-17) AT4(-15,-17) AT5(-14,-17) AT6(-13,-17) AT7(-12,-17) AT8(-11,-17) AT9(-10,-17) AT10(-9,-17) AT11(-8,-17) AT12(-7,-17) AT13(-6,-17) AT14(-5,-17) AT15(-4,-17) AT16(-3,-17) AT17(-2,-17) AT18(-1,-17) AT19(0,-17) AT20(1,-17) AT21(2,-17) AT22(3,-17) AT23(4,-17) AT24(5,-17) AT25(6,-17) AT26(7,-17) AT27(8,-17) AT28(9,-17) AT29(10,-17) AT30(11,-17) AT31(12,-17) AT32(13,-17) AT33(14,-17) AT34(15,-17) AT35(16,-17) AT36(17,-17) AT37(18,-17) AU1(-18,-18) AU2(-17,-18) AU3(-16,-18) AU4(-15,-18) AU5(-14,-18) AU6(-13,-18) AU7(-12,-18) AU8(-11,-18) AU9(-10,-18) AU10(-9,-18) AU11(-8,-18) AU12(-7,-18) AU13(-6,-18) AU14(-5,-18) AU15(-4,-18) AU16(-3,-18) AU17(-2,-18) AU18(-1,-18) AU19(0,-18) AU20(1,-18) AU21(2,-18) AU22(3,-18) AU23(4,-18) AU24(5,-18) AU25(6,-18) AU26(7,-18) AU27(8,-18) AU28(9,-18) AU29(10,-18) AU30(11,-18) AU31(12,-18) AU32(13,-18) AU33(14,-18) AU34(15,-18) AU35(16,-18) AU36(17,-18) AU37(18,-18) B1(-18,17) B2(-17,17) B3(-16,17) B4(-15,17) B5(-14,17) B6(-13,17) B7(-12,17) B8(-11,17) B9(-10,17) B10(-9,17) B11(-8,17) B12(-7,17) B13(-6,17) B14(-5,17) B15(-4,17) B16(-3,17) B17(-2,17) B18(-1,17) B19(0,17) B20(1,17) B21(2,17) B22(3,17) B23(4,17) B24(5,17) B25(6,17) B26(7,17) B27(8,17) B28(9,17) B29(10,17) B30(11,17) B31(12,17) B32(13,17) B33(14,17) B34(15,17) B35(16,17) B36(17,17) B37(18,17) C1(-18,16) C2(-17,16) C3(-16,16) C4(-15,16) C5(-14,16) C6(-13,16) C7(-12,16) C8(-11,16) C9(-10,16) C10(-9,16) C11(-8,16) C12(-7,16) C13(-6,16) C14(-5,16) C15(-4,16) C16(-3,16) C17(-2,16) C18(-1,16) C19(0,16) C20(1,16) C21(2,16) C22(3,16) C23(4,16) C24(5,16) C25(6,16) C26(7,16) C27(8,16) C28(9,16) C29(10,16) C30(11,16) C31(12,16) C32(13,16) C33(14,16) C34(15,16) C35(16,16) C36(17,16) C37(18,16) D1(-18,15) D2(-17,15) D3(-16,15) D4(-15,15) D5(-14,15) D6(-13,15) D7(-12,15) D8(-11,15) D9(-10,15) D10(-9,15) D11(-8,15) D12(-7,15) D13(-6,15) D14(-5,15) D15(-4,15) D16(-3,15) D17(-2,15) D18(-1,15) D19(0,15) D20(1,15) D21(2,15) D22(3,15) D23(4,15) D24(5,15) D25(6,15) D26(7,15) D27(8,15) D28(9,15) D29(10,15) D30(11,15) D31(12,15) D32(13,15) D33(14,15) D34(15,15) D35(16,15) D36(17,15) D37(18,15) E1(-18,14) E2(-17,14) E3(-16,14) E4(-15,14) E5(-14,14) E6(-13,14) E7(-12,14) E8(-11,14) E9(-10,14) E10(-9,14) E11(-8,14) E12(-7,14) E13(-6,14) E14(-5,14) E15(-4,14) E16(-3,14) E17(-2,14) E18(-1,14) E19(0,14) E20(1,14) E21(2,14) E22(3,14) E23(4,14) E24(5,14) E25(6,14) E26(7,14) E27(8,14) E28(9,14) E29(10,14) E30(11,14) E31(12,14) E32(13,14) E33(14,14) E34(15,14) E35(16,14) E36(17,14) E37(18,14) F1(-18,13) F2(-17,13) F3(-16,13) F4(-15,13) F5(-14,13) F6(-13,13) F7(-12,13) F8(-11,13) F9(-10,13) F10(-9,13) F11(-8,13) F12(-7,13) F13(-6,13) F14(-5,13) F15(-4,13) F16(-3,13) F17(-2,13) F18(-1,13) F19(0,13) F20(1,13) F21(2,13) F22(3,13) F23(4,13) F24(5,13) F25(6,13) F26(7,13) F27(8,13) F28(9,13) F29(10,13) F30(11,13) F31(12,13) F32(13,13) F33(14,13) F34(15,13) F35(16,13) F36(17,13) F37(18,13) G1(-18,12) G2(-17,12) G3(-16,12) G4(-15,12) G5(-14,12) G6(-13,12) G7(-12,12) G8(-11,12) G9(-10,12) G10(-9,12) G11(-8,12) G12(-7,12) G13(-6,12) G14(-5,12) G15(-4,12) G16(-3,12) G17(-2,12) G18(-1,12) G19(0,12) G20(1,12) G21(2,12) G22(3,12) G23(4,12) G24(5,12) G25(6,12) G26(7,12) G27(8,12) G28(9,12) G29(10,12) G30(11,12) G31(12,12) G32(13,12) G33(14,12) G34(15,12) G35(16,12) G36(17,12) G37(18,12) H1(-18,11) H2(-17,11) H3(-16,11) H4(-15,11) H5(-14,11) H6(-13,11) H7(-12,11) H8(-11,11) H9(-10,11) H10(-9,11) H11(-8,11) H12(-7,11) H13(-6,11) H14(-5,11) H15(-4,11) H16(-3,11) H17(-2,11) H18(-1,11) H19(0,11) H20(1,11) H21(2,11) H22(3,11) H23(4,11) H24(5,11) H25(6,11) H26(7,11) H27(8,11) H28(9,11) H29(10,11) H30(11,11) H31(12,11) H32(13,11) H33(14,11) H34(15,11) H35(16,11) H36(17,11) H37(18,11) J1(-18,10) J2(-17,10) J3(-16,10) J4(-15,10) J5(-14,10) J6(-13,10) J7(-12,10) J8(-11,10) J9(-10,10) J10(-9,10) J11(-8,10) J12(-7,10) J13(-6,10) J14(-5,10) J15(-4,10) J16(-3,10) J17(-2,10) J18(-1,10) J19(0,10) J20(1,10) J21(2,10) J22(3,10) J23(4,10) J24(5,10) J25(6,10) J26(7,10) J27(8,10) J28(9,10) J29(10,10) J30(11,10) J31(12,10) J32(13,10) J33(14,10) J34(15,10) J35(16,10) J36(17,10) J37(18,10) K1(-18,9) K2(-17,9) K3(-16,9) K4(-15,9) K5(-14,9) K6(-13,9) K7(-12,9) K8(-11,9) K9(-10,9) K10(-9,9) K11(-8,9) K12(-7,9) K13(-6,9) K14(-5,9) K15(-4,9) K16(-3,9) K17(-2,9) K18(-1,9) K19(0,9) K20(1,9) K21(2,9) K22(3,9) K23(4,9) K24(5,9) K25(6,9) K26(7,9) K27(8,9) K28(9,9) K29(10,9) K30(11,9) K31(12,9) K32(13,9) K33(14,9) K34(15,9) K35(16,9) K36(17,9) K37(18,9) L1(-18,8) L2(-17,8) L3(-16,8) L4(-15,8) L5(-14,8) L6(-13,8) L7(-12,8) L8(-11,8) L9(-10,8) L10(-9,8) L11(-8,8) L12(-7,8) L13(-6,8) L14(-5,8) L15(-4,8) L16(-3,8) L17(-2,8) L18(-1,8) L19(0,8) L20(1,8) L21(2,8) L22(3,8) L23(4,8) L24(5,8) L25(6,8) L26(7,8) L27(8,8) L28(9,8) L29(10,8) L30(11,8) L31(12,8) L32(13,8) L33(14,8) L34(15,8) L35(16,8) L36(17,8) L37(18,8) M1(-18,7) M2(-17,7) M3(-16,7) M4(-15,7) M5(-14,7) M6(-13,7) M7(-12,7) M8(-11,7) M9(-10,7) M10(-9,7) M11(-8,7) M12(-7,7) M13(-6,7) M14(-5,7) M15(-4,7) M16(-3,7) M17(-2,7) M18(-1,7) M19(0,7) M20(1,7) M21(2,7) M22(3,7) M23(4,7) M24(5,7) M25(6,7) M26(7,7) M27(8,7) M28(9,7) M29(10,7) M30(11,7) M31(12,7) M32(13,7) M33(14,7) M34(15,7) M35(16,7) M36(17,7) M37(18,7) N1(-18,6) N2(-17,6) N3(-16,6) N4(-15,6) N5(-14,6) N6(-13,6) N7(-12,6) N8(-11,6) N9(-10,6) N10(-9,6) N11(-8,6) N12(-7,6) N13(-6,6) N14(-5,6) N15(-4,6) N16(-3,6) N17(-2,6) N18(-1,6) N19(0,6) N20(1,6) N21(2,6) N22(3,6) N23(4,6) N24(5,6) N25(6,6) N26(7,6) N27(8,6) N28(9,6) N29(10,6) N30(11,6) N31(12,6) N32(13,6) N33(14,6) N34(15,6) N35(16,6) N36(17,6) N37(18,6) P1(-18,5) P2(-17,5) P3(-16,5) P4(-15,5) P5(-14,5) P6(-13,5) P7(-12,5) P8(-11,5) P9(-10,5) P10(-9,5) P11(-8,5) P12(-7,5) P13(-6,5) P14(-5,5) P15(-4,5) P16(-3,5) P17(-2,5) P18(-1,5) P19(0,5) P20(1,5) P21(2,5) P22(3,5) P23(4,5) P24(5,5) P25(6,5) P26(7,5) P27(8,5) P28(9,5) P29(10,5) P30(11,5) P31(12,5) P32(13,5) P33(14,5) P34(15,5) P35(16,5) P36(17,5) P37(18,5) R1(-18,4) R2(-17,4) R3(-16,4) R4(-15,4) R5(-14,4) R6(-13,4) R7(-12,4) R8(-11,4) R9(-10,4) R10(-9,4) R11(-8,4) R12(-7,4) R13(-6,4) R14(-5,4) R15(-4,4) R16(-3,4) R17(-2,4) R18(-1,4) R19(0,4) R20(1,4) R21(2,4) R22(3,4) R23(4,4) R24(5,4) R25(6,4) R26(7,4) R27(8,4) R28(9,4) R29(10,4) R30(11,4) R31(12,4) R32(13,4) R33(14,4) R34(15,4) R35(16,4) R36(17,4) R37(18,4) T1(-18,3) T2(-17,3) T3(-16,3) T4(-15,3) T5(-14,3) T6(-13,3) T7(-12,3) T8(-11,3) T9(-10,3) T10(-9,3) T11(-8,3) T12(-7,3) T13(-6,3) T14(-5,3) T15(-4,3) T16(-3,3) T17(-2,3) T18(-1,3) T19(0,3) T20(1,3) T21(2,3) T22(3,3) T23(4,3) T24(5,3) T25(6,3) T26(7,3) T27(8,3) T28(9,3) T29(10,3) T30(11,3) T31(12,3) T32(13,3) T33(14,3) T34(15,3) T35(16,3) T36(17,3) T37(18,3) U1(-18,2) U2(-17,2) U3(-16,2) U4(-15,2) U5(-14,2) U6(-13,2) U7(-12,2) U8(-11,2) U9(-10,2) U10(-9,2) U11(-8,2) U12(-7,2) U13(-6,2) U14(-5,2) U15(-4,2) U16(-3,2) U17(-2,2) U18(-1,2) U19(0,2) U20(1,2) U21(2,2) U22(3,2) U23(4,2) U24(5,2) U25(6,2) U26(7,2) U27(8,2) U28(9,2) U29(10,2) U30(11,2) U31(12,2) U32(13,2) U33(14,2) U34(15,2) U35(16,2) U36(17,2) U37(18,2) V1(-18,1) V2(-17,1) V3(-16,1) V4(-15,1) V5(-14,1) V6(-13,1) V7(-12,1) V8(-11,1) V9(-10,1) V10(-9,1) V11(-8,1) V12(-7,1) V13(-6,1) V14(-5,1) V15(-4,1) V16(-3,1) V17(-2,1) V18(-1,1) V19(0,1) V20(1,1) V21(2,1) V22(3,1) V23(4,1) V24(5,1) V25(6,1) V26(7,1) V27(8,1) V28(9,1) V29(10,1) V30(11,1) V31(12,1) V32(13,1) V33(14,1) V34(15,1) V35(16,1) V36(17,1) V37(18,1) W1(-18,0) W2(-17,0) W3(-16,0) W4(-15,0) W5(-14,0) W6(-13,0) W7(-12,0) W8(-11,0) W9(-10,0) W10(-9,0) W11(-8,0) W12(-7,0) W13(-6,0) W14(-5,0) W15(-4,0) W16(-3,0) W17(-2,0) W18(-1,0) W19(0,0) W20(1,0) W21(2,0) W22(3,0) W23(4,0) W24(5,0) W25(6,0) W26(7,0) W27(8,0) W28(9,0) W29(10,0) W30(11,0) W31(12,0) W32(13,0) W33(14,0) W34(15,0) W35(16,0) W36(17,0) W37(18,0) Y1(-18,-1) Y2(-17,-1) Y3(-16,-1) Y4(-15,-1) Y5(-14,-1) Y6(-13,-1) Y7(-12,-1) Y8(-11,-1) Y9(-10,-1) Y10(-9,-1) Y11(-8,-1) Y12(-7,-1) Y13(-6,-1) Y14(-5,-1) Y15(-4,-1) Y16(-3,-1) Y17(-2,-1) Y18(-1,-1) Y19(0,-1) Y20(1,-1) Y21(2,-1) Y22(3,-1) Y23(4,-1) Y24(5,-1) Y25(6,-1) Y26(7,-1) Y27(8,-1) Y28(9,-1) Y29(10,-1) Y30(11,-1) Y31(12,-1) Y32(13,-1) Y33(14,-1) Y34(15,-1) Y35(16,-1) Y36(17,-1) Y37(18,-1)
Top Overlay:
  circle w0.25: c-19.405,18 r0.125
  lines w0.2: -18.75,-18.169 -18.75,18.75 18.169,18.75 18.75,18.169 18.75,-18.169 18.169,-18.75 -18.169,-18.75 -18.75,-18.169